# EAGLE library part 6PINHEADER (library ForceTronics)
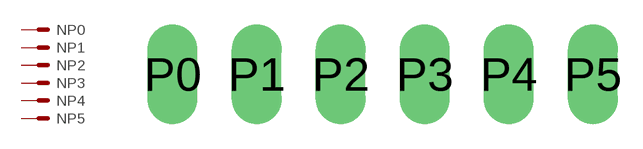
[diagram p1: symbol with the pads of 6PINHEADER; footprint 6PINHEADER]

Designator prefix N; gates P0=1PIN P1=1PIN P2=1PIN P3=1PIN P4=1PIN P5=1PIN

## 6PINHEADER  [6PINHEADER]
P0  P0:S  pas
P1  P1:S  pas
P2  P2:S  pas
P3  P3:S  pas
P4  P4:S  pas
P5  P5:S  pas

## Footprint 6PINHEADER (pad centres in mm)
drill 1 long: P0 1.27,-1.778; P1 3.81,-1.778; P2 6.35,-1.778; P3 8.89,-1.778; P4 11.43,-1.778; P5 13.97,-1.778